# Altium schematic symbol library 22-27-2061.SchLib: 1 symbol
Pins are listed as number, name and electrical type; pins without a type are passive.

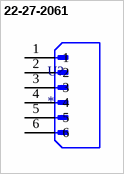
[diagram p0: symbol 22-27-2061]

## 22-27-2061
designator U?
Headers & Wire Housings STRT LOCKING HEADER; MF: Molex; Purchase-URL: https://pricing.snapeda.com/search/part/22-27-2061/?ref=eda; SnapEDA_Link: https://www.snapeda.com/parts/22-27-2061/Molex/view-part/5291808/?ref=snap; Package: None; Price: None; Value: *; Availability: Warning; MP: 22-27-2061; Check_prices: https://www.snapeda.com/parts/22-27-2061/Molex/view-part/5291808/?ref=eda
footprint MOLEX_22-27-2061
pins: 1, 2, 3, 4, 5, 6